# Altium schematic symbol library 1x6_Header.SchLib: 1 symbol
Pins are listed as number, name and electrical type; pins without a type are passive.

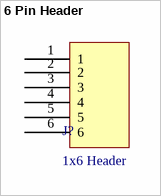
[diagram p0: symbol 6 Pin Header]

## 6 Pin Header
designator J?, comment 1x6 Header
SSQ-106-03-T-S; Supplier 1: Digikey; Supplier Part Number 1: SAM1206-06-ND
footprint 1x6Header
pins: 1, 2, 3, 4, 5, 6